# EAGLE library part RX8130 (library modules)
https://download.epsondevice.com/td/pdf/app/RX8130CE_en.pdf
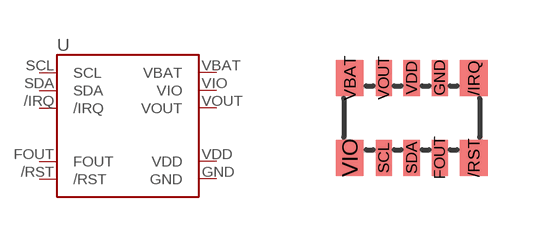
[diagram p4: symbol with the pads of SMT-3225-10; footprint SMT-3225-10]

Designator prefix -

## RX8130SMT  [SMT-3225-10]
/IRQ  /IRQ  out
/RST  /RST  out
FOUT  FOUT  out
GND  GND  pwr
SCL  SCL  in
SDA  SDA
VBAT  VBAT  pwr
VDD  VDD  pwr
VIO  VIO  sup
VOUT  VOUT  sup

## Footprint SMT-3225-10 (pad centres in mm)
smd 0.7 x 0.9: /IRQ 1.55,1; /RST 1.55,-1; VBAT -1.55,1; VIO -1.55,-1
smd 0.4 x 0.9: FOUT 0.7,-1; GND 0.7,1; SCL -0.7,-1; SDA 0,-1; VDD 0,1; VOUT -0.7,1